# Altium integrated library General.IntLib: 102 symbols (part 1 of 3)
Pins are listed as number, name and electrical type; pins without a type are passive.

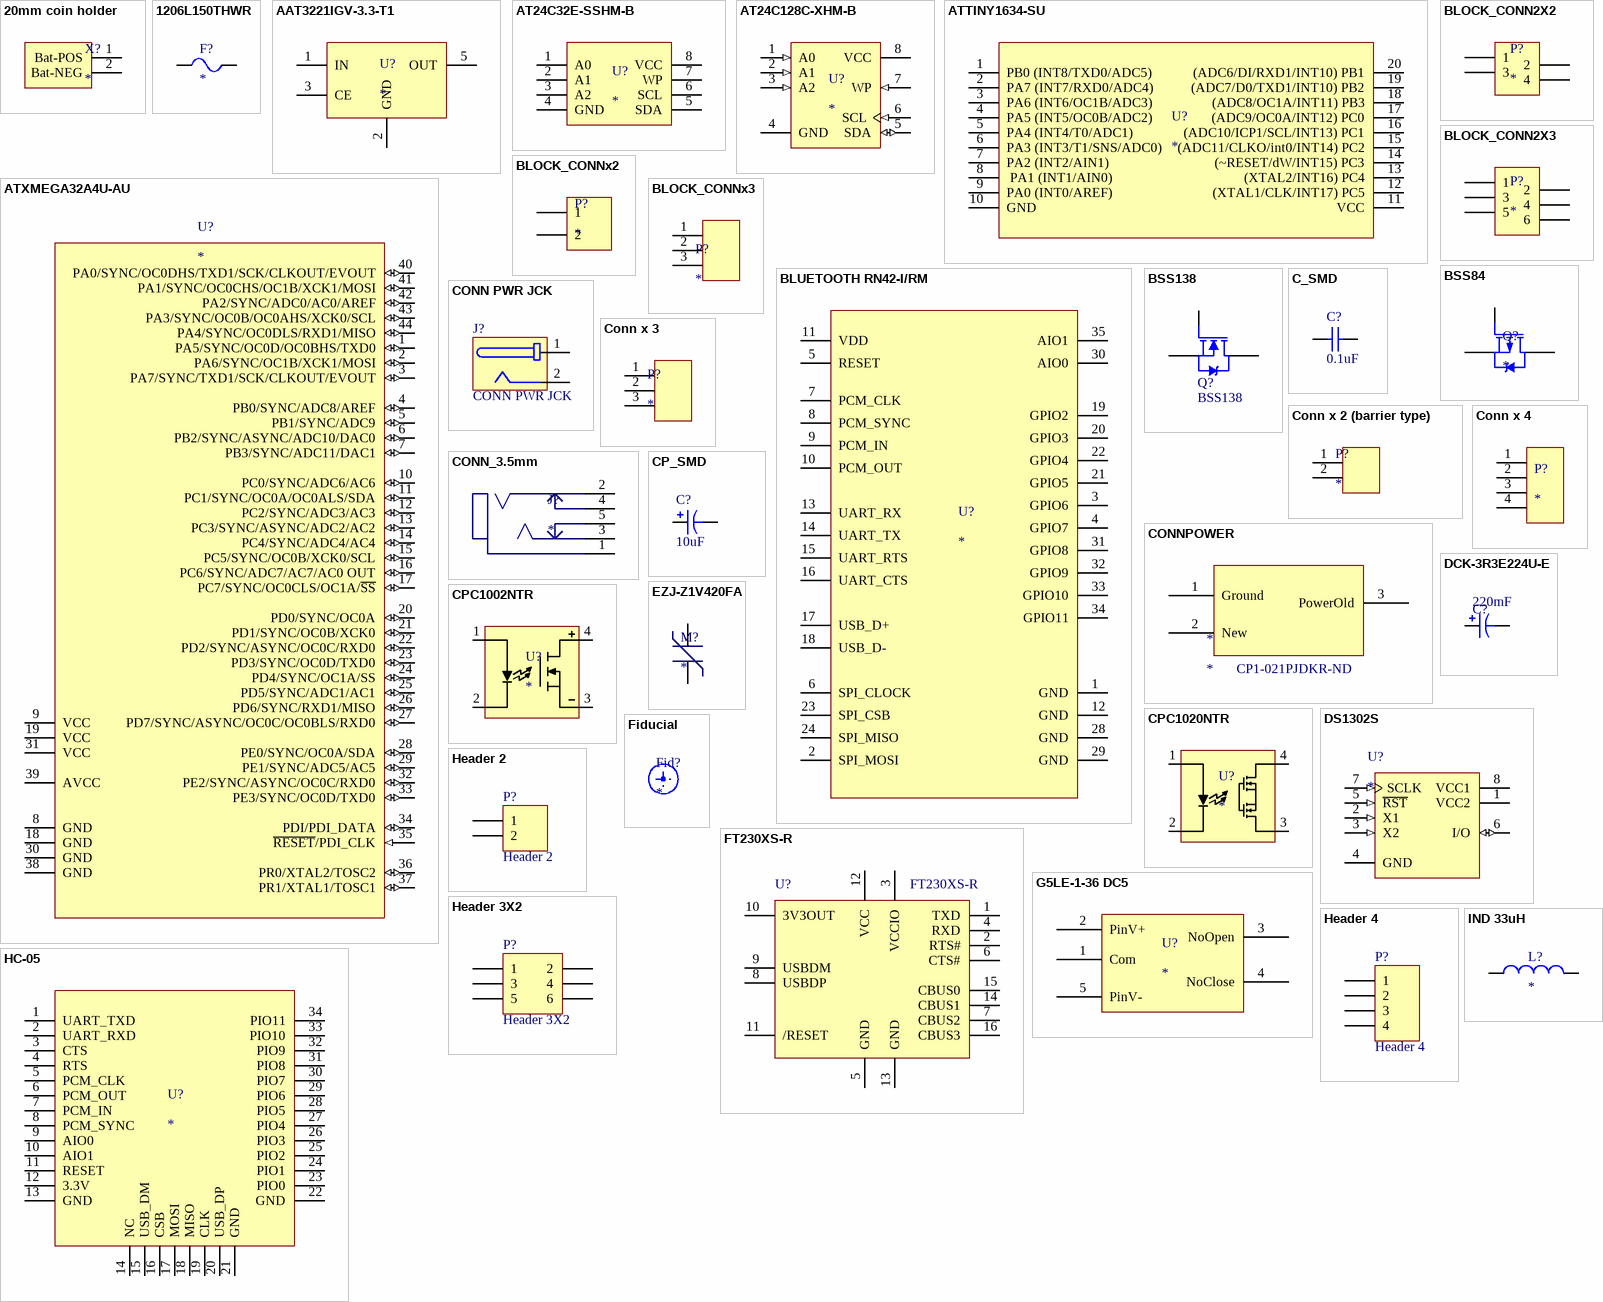
[diagram p0: symbols 20mm coin holder to IND 33uH]

## 20mm coin holder
designator X?
HOLDER BATTERY 20MM COIN; Manufacturer: Linx Technologies Inc.; Manufacturer Part Number: BAT-HLD-001; Battery Type, Function: Coin Cell, Retainer; Style: Retainer; Battery Cell Size: Coin, 20.0mm; Number of Cells: 1; Battery Series: 2025, 2032; Supplier 1: Digi-Key; RoHS: RoHS Compliant; Category: Battery Products; Stock 1: 32677; Pricing 1: 1=0.28, 25=0.2568, 100=0.233, 1000=0.22875 (USD); Mounting Type: PCB, Surface Mount; Termination Style: SMD (SMT) Tab; Height Above Board: 0.165" (4.20mm); Operating Temperature: -; ComponentLink1URL: https://www.linxtechnologies.com/resources/diagrams/bat-hld-001.pdf; ComponentLink1Description: https://www.linxtechnologies.com/resources/diagrams/bat-hld-001.pdf; Supplier Part Number 1: BAT-HLD-001-ND
footprint coin-battery-holder
pins: 1 Bat-POS, 2 Bat-NEG

## 1206L150THWR
designator F?
FUSE PTC RESET 8V 1.50A 1206; Manufacturer: Littelfuse Inc; Manufacturer Part Number: 1206L150THWR; Current - Max: 100A; Current - Hold (Ih) (Max): 1.5A; Current - Trip (It): 3A; R Min/Max: 0.040 ~ 0.120 Ohm; Time to Trip: 0.3s; Supplier 1: Digi-Key; RoHS: RoHS Compliant; Category: Circuit Protection; Stock 1: 8140; Pricing 1: 1=0.49, 10=0.462, 25=0.4256, 50=0.3892, 100=0.3234, 250=0.294, 500=0.2492, 1000=0.2198 (USD); Packaging: Cut Tape (CT); Voltage - Max: 8V; Package / Case: 1206 (3216 Metric), Concave, Long Side Terminals; ComponentLink1URL: http://www.littelfuse.com/~/media/electronics/datasheets/resettable_ptcs/littelfuse_ptc_1206l_datasheet.pdf.pdf; ComponentLink1Description: http://www.littelfuse.com/~/media/electronics/datasheets/resettable_ptcs/littelfuse_ptc_1206l_datasheet.pdf.pdf; Supplier Part Number 1: F3372CT-ND
footprint R1206_L (Chip Resistor, 2-Leads, Body 3,13x1,55mm, IPC High Density)
footprint R1206_M (Chip Resistor, 2-Leads, Body 3,13x1,60mm, IPC Low Density)
footprint R1206_N (Chip Resistor, 2-Leads, Body 3,13x1,55mm, IPC Medium Density)
pins: 1, 2

## AAT3221IGV-3.3-T1
designator U?
IC REG LDO 3.3V 0.15A SOT23-5; Manufacturer: Skyworks Solutions Inc; Manufacturer Part Number: AAT3221IGV-3.3-T1; Regulator Topology: Positive Fixed; Current - Output: 150mA; Voltage - Dropout (Typical): 0.18V @ 100mA; Number of Regulators: 1; Voltage - Input: Up to 5.5V; Supplier 1: Digi-Key; RoHS: RoHS Compliant; Category: Integrated Circuits (ICs); Stock 1: 55137; Pricing 1: 1=0.17, 100=0.15 (USD); Packaging: Cut Tape (CT); Voltage - Output: 3.3V; Current - Limit (Min): -; Operating Temperature: -40°C ~ 85°C; Mounting Type: Surface Mount; Package / Case: SC-74A, SOT-753; Supplier Device Package: SOT-23-5; ComponentLink1URL: http://www.skyworksinc.com/uploads/documents/AAT3221_AAT3222_202251B.pdf; ComponentLink1Description: http://www.skyworksinc.com/uploads/documents/AAT3221_AAT3222_202251B.pdf; Supplier Part Number 1: 863-1491-1-ND
footprint SOT-23-OT5_L (SOT23, 5-Leads, Body 2.9x1.6mm, Pitch 0.95mm, Lead Span 2.7mm, IPC High Density)
footprint SOT-23-OT5_M (SOT23, 5-Leads, Body 2.9x1.6mm, Pitch 0.95mm, Lead Span 2.7mm, IPC Low Density)
footprint SOT-23-OT5_N (SOT23, 5-Leads, Body 2.9x1.6mm, Pitch 0.95mm, Lead Span 2.7mm, IPC Medium Density)
pins: 1 IN, 2 GND, 3 CE, 5 OUT

## AT24C32E-SSHM-B
designator U?
1.7-3.6V 1MHZ IND TMP 8-SOIC-N; Manufacturer: Atmel; Manufacturer Part Number: AT24C32E-SSHM-B; Format - Memory: EEPROMs - Serial; Memory Type: EEPROM; Memory Size: 32K (4K x 8); Speed: 400kHz, 1MHz; Interface: I²C, 2-Wire Serial; Voltage - Supply: 1.7 V ~ 3.6 V; Supplier 1: Digi-Key; RoHS: RoHS Compliant; Category: Integrated Circuits (ICs); Stock 1: 1215; Pricing 1: 1=0.42, 10=0.416, 25=0.3868, 50=0.3844, 100=0.3415, 250=0.33708, 500=0.33204, 1000=0.32315 (USD); Packaging: Tube; Operating Temperature: -40°C ~ 85°C (TC); Package / Case: 8-SOIC (0.154", 3.90mm Width); Supplier Device Package: 8-SOIC; ComponentLink1URL: http://www.atmel.com/Images/Atmel-8905-SEEPROM-AT24C32E-Datasheet.pdf; ComponentLink1Description: http://www.atmel.com/Images/Atmel-8905-SEEPROM-AT24C32E-Datasheet.pdf; Supplier Part Number 1: AT24C32E-SSHM-B-ND
footprint SOIC-8_N (SOIC, 8-Leads, Body 4.90x3.90mm, Pitch 1.27mm, IPC Medium Density)
pins: 1 A0, 2 A1, 3 A2, 4 GND, 5 SDA, 6 SCL, 7 WP, 8 VCC

## AT24C128C-XHM-B
designator U?
IC EEPROM 128KBIT 1MHZ 8TSSOP; Manufacturer: Atmel; Manufacturer Part Number: AT24C128C-XHM-B; Format - Memory: EEPROMs - Serial; Memory Size: 128K (16K x 8); Speed: 400kHz, 1MHz; Interface: I²C, 2-Wire Serial; Voltage - Supply: 1.7 V ~ 5.5 V; Supplier 1: Digi-Key; RoHS: RoHS Compliant; Category: Integrated Circuits (ICs); Stock 1: 6121; Pricing 1: 1=0.79, 10=0.717, 25=0.708, 50=0.704, 100=0.6294, 250=0.62392, 500=0.61484, 1000=0.59267 (USD); Packaging: Bulk; Memory Type: EEPROM; Operating Temperature: -40°C ~ 85°C; Package / Case: 8-TSSOP (0.173", 4.40mm Width); Supplier Device Package: 8-TSSOP; ComponentLink1URL: http://www.atmel.com/Images/doc8734.pdf; ComponentLink1Description: http://www.atmel.com/Images/doc8734.pdf; Supplier Part Number 1: AT24C128C-XHM-B-ND
footprint 8A2_L (TSOP, 8-Leads, Body 3x4.4mm, Pitch 0.65mm, IPC High Density)
footprint 8A2_M (TSOP, 8-Leads, Body 3x4.4mm, Pitch 0.65mm, IPC Low Density)
footprint 8A2_N (TSOP, 8-Leads, Body 3x4.4mm, Pitch 0.65mm, IPC Medium Density)
pins: 1 A0 (in), 2 A1 (in), 3 A2 (in), 4 GND (power), 5 SDA (io), 6 SCL (in), 7 WP (in), 8 VCC (power)

## ATTINY1634-SU
designator U?
IC MCU 8BIT 16KB FLASH 20SOIC; Manufacturer: Atmel; Manufacturer Part Number: ATTINY1634-SU; Core Processor: AVR; Core Size: 8-Bit; Speed: 12MHz; Connectivity: I²C, SPI, UART/USART, USI; Peripherals: Brown-out Detect/Reset, POR, PWM, WDT; Number of I /O: 18; Program Memory Size: 16KB (16K x 8); EEPROM Size: 256 x 8; RAM Size: 1K x 8; Voltage - Supply (Vcc/Vdd): 1.8 V ~ 5.5 V; Data Converters: A/D 12x10b; Oscillator Type: Internal; Supplier 1: Digi-Key; RoHS: RoHS Compliant; Category: Integrated Circuits (ICs); Stock 1: 0; Pricing 1: 1=1.76, 25=1.12, 100=1 (USD); Packaging: Tube; Program Memory Type: FLASH; Operating Temperature: -40°C ~ 85°C; Package / Case: 20-SOIC (0.295", 7.50mm Width); ComponentLink1URL: http://www.atmel.com/Images/Atmel-8303-8-bit-AVR-Microcontroller-tinyAVR-ATtiny1634_Datasheet_summary.pdf; ComponentLink1Description: http://www.atmel.com/Images/Atmel-8303-8-bit-AVR-Microcontroller-tinyAVR-ATtiny1634_Datasheet_summary.pdf; Supplier Part Number 1: ATTINY1634-SU-ND
footprint SOIC20_L (SOIC, 20-Leads, Body 12,80x7,50mm, Pitch 1,27mm, IPC High Density)
footprint SOIC20_M (SOIC, 20-Leads, Body 12,80x7,50mm, Pitch 1,27mm, IPC Low Density)
footprint SOIC20_N (SOIC, 20-Leads, Body 12,80x7,50mm, Pitch 1,27mm, IPC Medium Density)
pins: 1 PB0 (INT8/TXD0/ADC5) , 2 PA7 (INT7/RXD0/ADC4) , 3 PA6 (INT6/OC1B/ADC3) , 4 PA5 (INT5/OC0B/ADC2) , 5 PA4 (INT4/T0/ADC1), 6 PA3 (INT3/T1/SNS/ADC0) , 7 PA2 (INT2/AIN1) , 8  PA1 (INT1/AIN0), 9 PA0 (INT0/AREF) , 10 GND, 11 VCC, 12 (XTAL1/CLK/INT17) PC5, 13 (XTAL2/INT16) PC4, 14 (~RESET/dW/INT15) PC3, 15 (ADC11/CLKO/int0/INT14) PC2, 16 (ADC10/ICP1/SCL/INT13) PC1, 17 (ADC9/OC0A/INT12) PC0, 18 (ADC8/OC1A/INT11) PB3, 19 (ADC7/D0/TXD1/INT10) PB2, 20 (ADC6/DI/RXD1/INT10) PB1

## ATXMEGA32A4U-AU
designator U?
IC MCU 8BIT 32KB FLASH 44TQFP; Manufacturer: Atmel; Manufacturer Part Number: ATXMEGA32A4U-AU; Core Processor: AVR; Core Size: 8/16-Bit; Speed: 32MHz; Connectivity: I²C, IrDA, SPI, UART/USART, USB; Peripherals: Brown-out Detect/Reset, DMA, POR, PWM, WDT; Number of I /O: 34; Program Memory Size: 32KB (16K x 16); EEPROM Size: 2K x 8; RAM Size: 4K x 8; Voltage - Supply (Vcc/Vdd): 1.6 V ~ 3.6 V; Data Converters: A/D 12x12b, D/A 2x12b; Oscillator Type: Internal; Supplier 1: Digi-Key; RoHS: RoHS Compliant; Category: Integrated Circuits (ICs); Stock 1: 2077; Pricing 1: 1=3.43, 25=2.1548, 100=1.9152 (USD); Packaging: Tray; Program Memory Type: FLASH; Operating Temperature: -40°C ~ 85°C; Package / Case: 44-TQFP; ComponentLink1URL: http://www.atmel.com/Images/Atmel-8387-8-and16-bit-AVR-Microcontroller-XMEGA-A4U_Datasheet.pdf; ComponentLink1Description: http://www.atmel.com/Images/Atmel-8387-8-and16-bit-AVR-Microcontroller-XMEGA-A4U_Datasheet.pdf; Supplier Part Number 1: ATXMEGA32A4U-AU-ND
footprint 44A_L (Thin QFP, 44-Leads, Body 10x10mm, Pitch 0.8mm, IPC High Density)
footprint 44A_M (Thin QFP, 44-Leads, Body 10x10mm, Pitch 0.8mm, IPC Low Density)
footprint 44A_N (Thin QFP, 44-Leads, Body 10x10mm, Pitch 0.8mm, IPC Medium Density)
pins: 1 PA5/SYNC/OC0D/OC0BHS/TXD0 (io), 2 PA6/SYNC/OC1B/XCK1/MOSI (io), 3 PA7/SYNC/TXD1/SCK/CLKOUT/EVOUT (io), 4 PB0/SYNC/ADC8/AREF (io), 5 PB1/SYNC/ADC9 (io), 6 PB2/SYNC/ASYNC/ADC10/DAC0 (io), 7 PB3/SYNC/ADC11/DAC1 (io), 8 GND (power), 9 VCC (power), 10 PC0/SYNC/ADC6/AC6 (io), 11 PC1/SYNC/OC0A/OC0ALS/SDA (io), 12 PC2/SYNC/ADC3/AC3 (io), 13 PC3/SYNC/ASYNC/ADC2/AC2 (io), 14 PC4/SYNC/ADC4/AC4 (io), 15 PC5/SYNC/OC0B/XCK0/SCL (io), 16 PC6/SYNC/ADC7/AC7/AC0 OUT (io), 17 PC7/SYNC/OC0CLS/OC1A/~{SS} (io), 18 GND (power), 19 VCC (power), 20 PD0/SYNC/OC0A (io), 21 PD1/SYNC/OC0B/XCK0 (io), 22 PD2/SYNC/ASYNC/OC0C/RXD0 (io), 23 PD3/SYNC/OC0D/TXD0 (io), 24 PD4/SYNC/OC1A/SS (io), 25 PD5/SYNC/ADC1/AC1 (io), 26 PD6/SYNC/RXD1/MISO (io), 27 PD7/SYNC/ASYNC/OC0C/OC0BLS/RXD0 (io), 28 PE0/SYNC/OC0A/SDA (io), 29 PE1/SYNC/ADC5/AC5 (io), 30 GND (power), 31 VCC (power), 32 PE2/SYNC/ASYNC/OC0C/RXD0 (io), 33 PE3/SYNC/OC0D/TXD0 (io), 34 PDI/PDI_DATA (io), 35 ~{RESET}/PDI_CLK (in), 36 PR0/XTAL2/TOSC2 (io), 37 PR1/XTAL1/TOSC1 (io), 38 GND (power), 39 AVCC (power), 40 PA0/SYNC/OC0DHS/TXD1/SCK/CLKOUT/EVOUT (io), 41 PA1/SYNC/OC0CHS/OC1B/XCK1/MOSI (io), 42 PA2/SYNC/ADC0/AC0/AREF (io), 43 PA3/SYNC/OC0B/OC0AHS/XCK0/SCL (io), 44 PA4/SYNC/OC0DLS/RXD1/MISO (io)

## BLOCK_CONN2X2
designator P?
TERM BLOCK 2POS STACK 5.08MM PC; Manufacturer: TE Connectivity; Manufacturer Part Number: 796692-2; Number of Levels: 2; Pitch: 0.200" (5.08mm); Mating Orientation: Horizontal with Board; Current: 17.5A; Voltage: 300V; Wire Gauge: 12-30 AWG; Wire Termination: Screw - Rising Cage Clamp; Clamp Material - Plating: Brass - Tin Plated; Screw Material - Plating: Brass - Nickel Plated; Torque - Screw: 0.79 Nm (7.0 Lb-In); Screw Thread: M3; Supplier 1: Digi-Key; RoHS: RoHS Compliant; Category: Connectors, Interconnects; Stock 1: 978; Pricing 1: 1=2.66, 10=2.013, 25=1.866, 50=1.6778, 100=1.637, 250=1.43236, 500=1.30956, 1000=1.1868, 2500=1.06402 (USD); Packaging: Bulk; Positions Per Level: 2; Mounting Type: Through Hole; Features: Interlocking (Side); Color: Green; Operating Temperature: -; Housing Material: Polyamide (PA66), Nylon 6/6; Contact Material - Plating: Brass - Tin Plated; ComponentLink1URL: http://www.te.com/commerce/DocumentDelivery/DDEController?Action=srchrtrv&DocNm=796692&DocType=Customer+Drawing&DocLang=English; ComponentLink1Description: http://www.te.com/commerce/DocumentDelivery/DDEController?Action=srchrtrv&DocNm=796692&DocType=Customer+Drawing&DocLang=English; Supplier Part Number 1: A98450-ND
footprint block_conn 2 x 2
pins: 1, 2, 3, 4

## BLOCK_CONN2X3
designator P?
TERM BLOCK 3POS STACK 5.08MM PC; Manufacturer: TE Connectivity; Manufacturer Part Number: 796692-3; Number of Levels: 2; Positions Per Level: 3; Pitch: 0.200" (5.08mm); Mating Orientation: Horizontal with Board; Current: 17.5A; Voltage: 300V; Wire Gauge: 12-30 AWG; Wire Termination: Screw - Rising Cage Clamp; Clamp Material - Plating: Brass - Tin Plated; Screw Material - Plating: Brass - Nickel Plated; Torque - Screw: 0.79 Nm (7.0 Lb-In); Screw Thread: M3; Supplier 1: Digi-Key; RoHS: RoHS Compliant; Category: Connectors, Interconnects; Stock 1: 537; Pricing 1: 1=4.64, 25=3.312, 50=2.944, 100=2.88, 250=2.656, 500=2.4, 1000=2.128, 2500=2.04, 5000=2 (USD); Packaging: Bulk; Mounting Type: Through Hole; Features: Interlocking (Side); Color: Green; Operating Temperature: -; Housing Material: Polyamide (PA66), Nylon 6/6; Contact Material - Plating: Brass - Tin Plated; ComponentLink1URL: http://www.te.com/commerce/DocumentDelivery/DDEController?Action=srchrtrv&DocNm=796692&DocType=Customer+Drawing&DocLang=English; ComponentLink1Description: http://www.te.com/commerce/DocumentDelivery/DDEController?Action=srchrtrv&DocNm=796692&DocType=Customer+Drawing&DocLang=English; Supplier Part Number 1: A98266-ND
footprint block_conn 2 x 3
pins: 1, 2, 3, 4, 5, 6

## BLOCK_CONNx2
designator P?
TERM BLOCK 5.08MM VERT 2POS PCB; Manufacturer: On Shore Technology Inc; Manufacturer Part Number: OSTTC022162; Number of Levels: 1; Positions Per Level: 2; Pitch: 0.200" (5.08mm); Mating Orientation: Horizontal with Board; Current: 15A; Voltage: 300V; Wire Gauge: 14-22 AWG; Wire Termination: Screw - Leaf Spring, Wire Guard; Clamp Material - Plating: Steel, Stainless; Screw Material - Plating: Steel - Zinc Plated; Torque - Screw: 0.3 Nm (2.6 Lb-In); Screw Thread: M2.6; Supplier 1: Digi-Key; RoHS: RoHS Compliant; Category: Connectors, Interconnects; Stock 1: 37906; Pricing 1: 1=0.41, 10=0.385, 50=0.2806, 100=0.2695, 250=0.242, 500=0.231, 1000=0.1925, 2500=0.176, 5000=0.165 (USD); Packaging: Bulk; Mounting Type: Through Hole; Features: Interlocking (Side); Color: Blue; Operating Temperature: -30°C ~ 105°C; Housing Material: Thermoplastic; Contact Material - Plating: Tin Plated; ComponentLink1URL: http://www.on-shore.com/sites/default/files/manuals/osttcxx2162.pdf; ComponentLink1Description: http://www.on-shore.com/sites/default/files/manuals/osttcxx2162.pdf; Supplier Part Number 1: ED2609-ND
footprint BLOCK_CONNX2
pins: 1, 2

## BLOCK_CONNx3
designator P?
TERM BLOCK 5.08MM VERT 3POS PCB; Manufacturer: On Shore Technology Inc; Manufacturer Part Number: OSTTC032162; Number of Levels: 1; Positions Per Level: 3; Pitch: 0.200" (5.08mm); Mating Orientation: Horizontal with Board; Current: 15A; Voltage: 300V; Wire Gauge: 14-22 AWG; Wire Termination: Screw - Leaf Spring, Wire Guard; Clamp Material - Plating: Steel, Stainless; Screw Material - Plating: Steel - Zinc Plated; Torque - Screw: 0.3 Nm (2.6 Lb-In); Screw Thread: M2.6; Supplier 1: Digi-Key; RoHS: RoHS Compliant; Category: Connectors, Interconnects; Stock 1: 4040; Pricing 1: 1=0.51, 10=0.48, 50=0.384, 100=0.368, 250=0.336, 500=0.32, 1000=0.264, 2500=0.24, 5000=0.232 (USD); Packaging: Bulk; Mounting Type: Through Hole; Features: Interlocking (Side); Color: Blue; Operating Temperature: -30°C ~ 105°C; Housing Material: Thermoplastic; Contact Material - Plating: Tin Plated; ComponentLink1URL: http://www.on-shore.com/sites/default/files/manuals/osttcxx2162.pdf; ComponentLink1Description: http://www.on-shore.com/sites/default/files/manuals/osttcxx2162.pdf; Supplier Part Number 1: ED2610-ND
footprint BLOCK_CONNx3
pins: 1, 2, 3

## BLUETOOTH RN42-I/RM
designator U?
MODULE BLUETOOTH V2.1+EDR; Manufacturer: Microchip Technology; Manufacturer Part Number: RN42-I/RM; Frequency: 2.4GHz; Data Rate (Max): 3Mbps; Modulation or Protocol: Bluetooth v2.1+EDR, Class 2; Power - Output: 4dBm; Sensitivity: -80dBm; Voltage - Supply: 3 V ~ 3.6 V; Current - Receiving: 25mA; Data Interface: Pads for Pins; Antenna Connector: On-Board, Trace; Supplier 1: Digi-Key; RoHS: RoHS Compliant; Category: RF/IF and RFID; Stock 1: 1863; Pricing 1: 1=18.32, 10=15.27, 25=13.9624 (USD); Packaging: Tray; Applications: General Purpose; Current - Transmitting: 25mA; Memory Size: -; Operating Temperature: -40°C ~ 85°C; Package / Case: 35-SMD Module; ComponentLink1URL: http://www.microchip.com/mymicrochip/filehandler.aspx?ddocname=en558090; ComponentLink1Description: http://www.microchip.com/mymicrochip/filehandler.aspx?ddocname=en558090; Supplier Part Number 1: 740-1038-ND
footprint RN42
pins: 1 GND, 2 SPI_MOSI, 3 GPIO6, 4 GPIO7, 5 RESET, 6 SPI_CLOCK, 7 PCM_CLK, 8 PCM_SYNC, 9 PCM_IN, 10 PCM_OUT, 11 VDD, 12 GND, 13 UART_RX, 14 UART_TX, 15 UART_RTS, 16 UART_CTS, 17 USB_D+, 18 USB_D-, 19 GPIO2, 20 GPIO3, 21 GPIO5, 22 GPIO4, 23 SPI_CSB, 24 SPI_MISO, 28 GND, 29 GND, 30 AIO0, 31 GPIO8, 32 GPIO9, 33 GPIO10, 34 GPIO11, 35 AIO1

## BSS84
designator Q?
MOSFET P-CH 50V 130MA SOT-23; Manufacturer: Fairchild Semiconductor; Manufacturer Part Number: BSS84; FET Type: MOSFET P-Channel, Metal Oxide; FET Feature: Logic Level Gate; Current - Continuous Drain (Id) @ 25°C: 130mA (Ta); Rds On (Max) @ Id, Vgs: 10 Ohm @ 100mA, 5V; Vgs(th) (Max) @ Id: 2V @ 1mA; Gate Charge (Qg) @ Vgs: 1.3nC @ 5V; Input Capacitance (Ciss) @ Vds: 73pF @ 25V; Power - Max: 360mW; Supplier 1: Digi-Key; RoHS: RoHS Compliant; Category: Discrete Semiconductor Products; Stock 1: 131262; Pricing 1: 1=0.22, 10=0.198, 25=0.1428, 100=0.111, 250=0.06976, 500=0.05944, 1000=0.0405 (USD); Packaging: Cut Tape (CT); Drain to Source Voltage (Vdss): 50V; Mounting Type: Surface Mount; Package / Case: TO-236-3, SC-59, SOT-23-3; Supplier Device Package: SOT-23; ComponentLink1URL: http://www.fairchildsemi.com/ds/BS/BSS84.pdf; ComponentLink1Description: http://www.fairchildsemi.com/ds/BS/BSS84.pdf; Supplier Part Number 1: BSS84CT-ND
footprint SOT-23_L (SOT23, 3-Leads, Body 2.9x1.3mm, Pitch 0.95mm, Lead Span 2.5mm, IPC High Density)
footprint SOT-23_M (SOT23, 3-Leads, Body 2.9x1.3mm, Pitch 0.95mm, Lead Span 2.5mm, IPC Low Density)
footprint SOT-23_N (SOT23, 3-Leads, Body 2.9x1.3mm, Pitch 0.95mm, Lead Span 2.5mm, IPC Medium Density)
pins: 1 G, 2 S, 3 D

## BSS138
designator Q?
MOSFET N-CH 50V 220MA SOT-23; Manufacturer: Fairchild Semiconductor; FET Type: MOSFET N-Channel, Metal Oxide; FET Feature: Logic Level Gate; Current - Continuous Drain (Id) @ 25°C: 220mA (Ta); Rds On (Max) @ Id, Vgs: 3.5 Ohm @ 220mA, 10V; Vgs(th) (Max) @ Id: 1.5V @ 1mA; Gate Charge (Qg) @ Vgs: 2.4nC @ 10V; Input Capacitance (Ciss) @ Vds: 27pF @ 25V; Power - Max: 360mW; Supplier 1: Digi-Key; Manufacturer Part Number: BSS138; RoHS: RoHS Compliant; Category: Discrete Semiconductor Products; Stock 1: 168921; Pricing 1: 1=0.22, 10=0.196, 25=0.1408, 100=0.1096, 250=0.06884, 500=0.05868, 1000=0.03998 (USD); Packaging: Cut Tape (CT); Drain to Source Voltage (Vdss): 50V; Mounting Type: Surface Mount; Package / Case: TO-236-3, SC-59, SOT-23-3; Supplier Device Package: SOT-23; ComponentLink1URL: http://www.fairchildsemi.com/datasheets/BS/BSS138.pdf; ComponentLink1Description: http://www.fairchildsemi.com/datasheets/BS/BSS138.pdf; Supplier Part Number 1: BSS138CT-ND
footprint SOT23_N (SOT23, 3-Leads, Body 2.9x1.3mm, Pitch 0.95mm, Lead Span 2.3mm, IPC Medium Density)
footprint SOT23_M (SOT23, 3-Leads, Body 2.9x1.3mm, Pitch 0.95mm, Lead Span 2.3mm, IPC Low Density)
footprint SOT23_L (SOT23, 3-Leads, Body 2.9x1.3mm, Pitch 0.95mm, Lead Span 2.3mm, IPC High Density)
pins: 1 G, 2 S, 3 D

## C_SMD
designator C?, comment 0.1uF
Value: 0.1uF
footprint C0603_L (Chip Capacitor, 2-Leads, Body 1,60x0,80mm, IPC High Density)
footprint C0603_M (Chip Capacitor, 2-Leads, Body 1,60x0,80mm, IPC Low Density)
footprint C0603_N (Chip Capacitor, 2-Leads, Body 1,60x0,80mm, IPC Medium Density)
footprint C0805_L (Chip Capacitor, 2-Leads, Body 2,00x1,25mm, IPC High Density)
footprint C0805_M (Chip Capacitor, 2-Leads, Body 2,00x1,25mm, IPC Low Density)
footprint C0805_N (Chip Capacitor, 2-Leads, Body 2,00x1,25mm, IPC Medium Density)
footprint C1206_L (Chip Capacitor, 2-Leads, Body 3,20x1,60mm, IPC High Density)
footprint C1206_M (Chip Capacitor, 2-Leads, Body 3,20x1,60mm, IPC Low Density)
footprint C1206_N (Chip Capacitor, 2-Leads, Body 3,20x1,60mm, IPC Medium Density)
pins: 1, 2

## CONN PWR JCK
designator J?
CON PWR JCK 2.0 X 6.5MM W/O SW; Manufacturer: CUI Inc; Manufacturer Part Number: PJ-037A; Connector Type: Jack; Gender: Male; Plug/Mating Plug Diameter: 2.1mm ID, 5.5mm OD; Number of Positions/Contacts: 2 Conductors, 2 Contacts; Internal Switch(s): Does Not Contain Switch; Shielding: Unshielded; Voltage - Rated: 16VDC; Current Rating: 2.5A; Supplier 1: Digi-Key; RoHS: RoHS Compliant; Category: Connectors, Interconnects; Stock 1: 1843; Pricing 1: 1=0.91, 10=0.634, 100=0.4254, 500=0.3439, 1000=0.3077, 2500=0.24435 (USD); Mounting Type: Through Hole, Right Angle; Termination: Solder Eyelet(s); Features: -; Color: Black; Contact Material: Copper; Contact Material - Plating: Nickel; Housing Color: Black; Housing Material: Thermoplastic; Operating Temperature: -; ComponentLink1URL: http://www.cui.com/product/resource/digikeypdf/pj-037a.pdf; ComponentLink1Description: http://www.cui.com/product/resource/digikeypdf/pj-037a.pdf; Supplier Part Number 1: CP-037A-ND
footprint CONN_BARREL_PWR
pins: 1, 2

## Conn x 2 (barrier type)
designator P?
Manufacturer: TE Connectivity; Manufacturer Part Number: 3-1437652-9; Number of Circuits: 2; Pitch: 0.375" (9.53mm); Current Rating: 25A; Voltage Rating: 300V; Wire Gauge: 12-22 AWG; Top Termination: Screws; Bottom Termination: PC Pin; Barrier Type: 3 Wall (Tri); Material - Insulation: Thermoplastic; Material Flammability Rating: UL94 V-0; Supplier 1: Digi-Key; RoHS: RoHS Compliant; Category: Connectors, Interconnects; Stock 1: 5495; Pricing 1: 1=1.62, 10=1.14, 50=0.9652, 100=0.9609, 250=0.8114, 500=0.7687, 1000=0.68328, 2500=0.56798, 5000=0.55517 (USD); Packaging: Bulk; Terminal Block Type: Barrier Block; Number of Wire Entries: 2; Number of Rows: 1; Features: -; Color: Black; Terminal Material: Steel; Terminal Finish: Zinc, Clear Chromate; Mounting Type: Through Hole; Operating Temperature: 105°C; ComponentLink1URL: http://www.te.com/commerce/DocumentDelivery/DDEController?Action=srchrtrv&DocNm=3-1437652-9&DocType=Customer+Drawing&DocLang=English; ComponentLink1Description: http://www.te.com/commerce/DocumentDelivery/DDEController?Action=srchrtrv&DocNm=3-1437652-9&DocType=Customer+Drawing&DocLang=English; Supplier Part Number 1: A98481-ND
footprint BARRIER CONN X 2
pins: 1, 2

## Conn x 3
designator P?
CONN HEADER VERT 3POS .100 TIN; Manufacturer: TE Connectivity; Manufacturer Part Number: 640456-3; Connector Type: Header, Unshrouded; Number of Positions: 3; Number of Positions Loaded: All; Pitch: 0.100" (2.54mm); Supplier 1: Digi-Key; RoHS: RoHS Compliant; Category: Connectors, Interconnects; Stock 1: 62912; Pricing 1: 1=0.2, 10=0.185, 50=0.118, 100=0.1141, 250=0.09832, 500=0.0944, 1000=0.08259, 2500=0.07473, 5000=0.07079 (USD); Packaging: Bulk; Contact Type: Male Pin; Number of Rows: 1; Row Spacing: -; Contact Mating Length: 0.295" (7.49mm); Mounting Type: Through Hole; Termination: Solder; Fastening Type: Friction Lock; Features: -; Contact Finish: Tin; Contact Finish Thickness: -; Color: Natural; ComponentLink1URL: http://www.te.com/commerce/DocumentDelivery/DDEController?Action=srchrtrv&DocNm=640456&DocType=Customer+Drawing&DocLang=English; ComponentLink1Description: http://www.te.com/commerce/DocumentDelivery/DDEController?Action=srchrtrv&DocNm=640456&DocType=Customer+Drawing&DocLang=English; Supplier Part Number 1: A19470-ND
footprint conn x 3
pins: 1, 2, 3

## Conn x 4
designator P?
CONN HEADER VERT 4POS .100 TIN; Manufacturer: TE Connectivity; Manufacturer Part Number: 640454-4; Connector Type: Header, Unshrouded; Number of Positions: 4; Number of Positions Loaded: All; Pitch: 0.100" (2.54mm); Supplier 1: Digi-Key; RoHS: RoHS Compliant; Category: Connectors, Interconnects; Stock 1: 24607; Pricing 1: 1=0.18, 10=0.164, 50=0.1228, 100=0.114, 250=0.10088, 500=0.0965, 1000=0.07895, 2500=0.07237, 5000=0.07018 (USD); Packaging: Bulk; Contact Type: Male Pin; Number of Rows: 1; Row Spacing: -; Contact Mating Length: 0.295" (7.49mm); Mounting Type: Through Hole; Termination: Solder; Fastening Type: -; Features: Polarizing Key; Contact Finish: Tin; Contact Finish Thickness: -; Color: Natural; ComponentLink1URL: http://www.te.com/commerce/DocumentDelivery/DDEController?Action=srchrtrv&DocNm=640454&DocType=Customer+Drawing&DocLang=English; ComponentLink1Description: http://www.te.com/commerce/DocumentDelivery/DDEController?Action=srchrtrv&DocNm=640454&DocType=Customer+Drawing&DocLang=English; Supplier Part Number 1: A19431-ND
footprint conn x 4
pins: 1, 2, 3, 4

## CONN_3.5mm
designator J?
CONN JACK STEREO 3.5MM SMD; Manufacturer: Switchcraft Inc.; Manufacturer Part Number: 35RASMT4BHNTRX; Connector Type: Phone Jack; Gender: Female; Plug/Mating Plug Diameter: 3.50mm (0.141", 1/8", Mini Plug) - Headphone; Number of Positions/Contacts: 3 Conductors, 5 Contacts; Internal Switch(s): Two Switches; Shielding: Unshielded; Color - Contact: Gold; Voltage - Rated: 250VAC; Current Rating: 3A; Supplier 1: Digi-Key; RoHS: RoHS Compliant; Category: Connectors, Interconnects; Stock 1: 3537; Pricing 1: 1=0.65 (USD); Signal Lines: Stereo; Mounting Type: Surface Mount, Right Angle; Termination: Solder; Features: -; Contact Material: Copper Alloy; Contact Material - Plating: Silver; Housing Material: Thermoplastic; Housing Color: Black; Operating Temperature: -25°C ~ 85°C; Packaging: Digi-Reel®; ComponentLink1URL: http://www.switchcraft.com/Drawings/35rasmt4bhntrx_cd.pdf; ComponentLink1Description: http://www.switchcraft.com/Drawings/35rasmt4bhntrx_cd.pdf; Supplier Part Number 1: SC1488-6-ND
footprint JACK_3.5MM
pins: 1, 2, 3, 4, 5

## CONNPOWER
designator *  Supplier Part Number 1: CP1-021PJDKR-ND
Supplier 1: Digi-Key
footprint CONNPOWER
pins: 1 Ground, 2 New, 3 PowerOld

## CP_SMD
designator C?, comment 10uF
Value: 10uF
footprint C_TANT_A_3216_L (Molded Capacitor, 2-Leads, Body 3,20x1,60mm, IPC High Density)
footprint C_TANT_A_3216_M (Molded Capacitor, 2-Leads, Body 3,20x1,60mm, IPC Low Density)
footprint C_TANT_A_3216_N (Molded Capacitor, 2-Leads, Body 3,20x1,60mm, IPC Medium Density)
pins: 1, 2

## CPC1002NTR
designator U?
RELAY OPTOMOS 700MA 4-SOP; Manufacturer: IXYS Integrated Circuits Division; Manufacturer Part Number: CPC1002NTR; Circuit: SPST-NO (1 Form A); Output Type: DC; On-State Resistance: 550 mOhm; Voltage - Input: 1.2VDC; Voltage - Load: 0 ~ 60 V; Supplier 1: Digi-Key; RoHS: RoHS Compliant; Category: Relays; Stock 1: 7155; Pricing 1: 1=1.71, 10=1.53, 25=1.35, 100=1.215, 250=1.05752, 500=0.945, 1000=0.7425 (USD); Packaging: Cut Tape (CT); Load Current: 700mA; Mounting Type: Surface Mount; Termination Style: Gull Wing; Package / Case: 4-SOP (0.150", 3.81mm); Supplier Device Package: 4-SOP (2.54mm); Relay Type: Relay; ComponentLink1URL: http://www.clare.com/home/pdfs.nsf/www/CPC1002N.pdf/$file/CPC1002N.pdf; ComponentLink1Description: http://www.clare.com/home/pdfs.nsf/www/CPC1002N.pdf/$file/CPC1002N.pdf; Supplier Part Number 1: CLA230CT-ND
footprint SOP4_N (SOP, 4-Leads, Body 4,09x3,81mm, Pitch 2,54mm, IPC Medium Density)
pins: 1 control+, 2 control-, 3 DC-, 4 DC+

## CPC1020NTR
designator U?
RELAY OPTOMOS 1200MA 4-SOP; Manufacturer: IXYS Integrated Circuits Division; Manufacturer Part Number: CPC1020NTR; Circuit: SPST-NO (1 Form A); Output Type: AC, DC; On-State Resistance: 250 mOhm; Load Current: 1.2A; Voltage - Input: 1.2VDC; Voltage - Load: 0 ~ 30 V; Supplier 1: Digi-Key; RoHS: RoHS Compliant; Category: Relays; Stock 1: 34319; Pricing 1: 1=3.12, 10=2.808, 25=2.548, 100=2.288, 250=2.08, 500=1.82, 1000=1.56 (USD); Packaging: Cut Tape (CT); Mounting Type: Surface Mount; Termination Style: Gull Wing; Package / Case: 4-SOP (0.150", 3.81mm); Supplier Device Package: 4-SOP (2.54mm); Relay Type: Relay; ComponentLink1URL: http://www.clare.com/home/pdfs.nsf/www/CPC1020N.pdf/$file/CPC1020N.pdf; ComponentLink1Description: http://www.clare.com/home/pdfs.nsf/www/CPC1020N.pdf/$file/CPC1020N.pdf; Supplier Part Number 1: CLA318CT-ND
footprint SOP4_N (SOP, 4-Leads, Body 4,09x3,81mm, Pitch 2,54mm, IPC Medium Density)
pins: 1 control+, 2 control-, 3 DC-, 4 DC+

## DCK-3R3E224U-E
designator C?  Capacitance: 220mF  (hidden comment: *)
CAP 220MF -20% +80% 3.3V SMD; Manufacturer: Elna America; Manufacturer Part Number: DCK-3R3E224U-E; Tolerance: -20%, +80%; ESR (Equivalent Series Resistance): 200 Ohm @ 1kHz; Lifetime @ Temp.: 1000 Hrs @ 60°C; Supplier 1: Digi-Key; RoHS: RoHS Compliant; Category: Capacitors; Stock 1: 16325; Pricing 1: 1=1.41, 10=1.114, 25=1.0208, 50=0.9652, 100=0.8352, 250=0.7424, 500=0.63104, 1000=0.5568, 5000=0.50112 (USD); Packaging: Bulk; Voltage - Rated: 3.3V; Termination: Solder Pads; Mounting Type: Surface Mount; Package / Case: Coin, Wide Terminals - Same Sides; Lead Spacing: -; Size / Dimension: 0.268" Dia (6.80mm); Height - Seated (Max): 0.083" (2.10mm); Operating Temperature: -10°C ~ 60°C; ComponentLink1URL: http://media.digikey.com/pdf/Data%20Sheets/Elna%20America%20Inc/DC_DCKe.pdf; ComponentLink1Description: http://media.digikey.com/pdf/Data%20Sheets/Elna%20America%20Inc/DC_DCKe.pdf; Supplier Part Number 1: 604-1007-ND
footprint SuperCap-Elna
pins: 1, 2

## DS1302S
designator U?
IC TIMEKEEPER T-CHARGE 8-SOIC; Manufacturer: Maxim Integrated; Manufacturer Part Number: DS1302S+T&R; Memory Size: 31B; Time Format: HH:MM:SS (12/24 hr); Date Format: YY-MM-DD-dd; Interface: 3-Wire Serial; Voltage - Supply: 2 V ~ 5.5 V; Supplier 1: Digi-Key; RoHS: RoHS Compliant; Category: Integrated Circuits (ICs); Stock 1: 2031; Pricing 1: 1=3.05, 10=2.882, 25=2.3052, 50=2.19, 100=2.0171, 250=1.91332, 500=1.84416 (USD); Packaging: Cut Tape (CT); Type: Clock/Calendar; Features: Leap Year, NVSRAM, Trickle-Charger; Voltage - Supply, Battery: 2 V ~ 5.5 V; Operating Temperature: 0°C ~ 70°C; Mounting Type: Surface Mount; Package / Case: 8-SOIC (0.209", 5.30mm Width); Supplier Device Package: 8-SO; ComponentLink1URL: http://datasheets.maximintegrated.com/en/ds/DS1302.pdf; ComponentLink1Description: http://datasheets.maximintegrated.com/en/ds/DS1302.pdf; Supplier Part Number 1: DS1302S
footprint SOIC8WA_L (SOP, 8-Leads, Body 5.3x5.3mm, Pitch 1.27mm, IPC High Density)
footprint SOIC8WA_M (SOP, 8-Leads, Body 5.3x5.3mm, Pitch 1.27mm, IPC Low Density)
footprint SOIC8WA_N (SOP, 8-Leads, Body 5.3x5.3mm, Pitch 1.27mm, IPC Medium Density)
pins: 1 VCC2 (power), 2 X1 (in), 3 X2 (in), 4 GND (power), 5 ~{RST} (in), 6 I/O (io), 7 SCLK (in), 8 VCC1 (power)

## EZJ-Z1V420FA
designator M?
VARISTOR 42V 15A 0603; Manufacturer: Panasonic Electronic Components; Manufacturer Part Number: EZJ-Z1V420FA; Number of Circuits: 1; Maximum DC Volts: 30VDC; Supplier 1: Digi-Key; RoHS: RoHS Compliant; Category: Circuit Protection; Stock 1: 5765; Pricing 1: 1=0.35, 10=0.195, 100=0.1203, 500=0.09778, 1000=0.08797 (USD); Packaging: Cut Tape (CT); Varistor Voltage (Min): 42V; Current - Surge: 15A; Maximum AC Volts: -; Energy: -; Package / Case: 0603 (1608 Metric); ComponentLink1URL: http://industrial.panasonic.com/www-cgi/jvcr13pz.cgi?E+PZ+3+AWC0002+EZJZ1V420FA+7+WW; ComponentLink1Description: http://industrial.panasonic.com/www-cgi/jvcr13pz.cgi?E+PZ+3+AWC0002+EZJZ1V420FA+7+WW; Supplier Part Number 1: P13699CT-ND
footprint R0603_L (Chip Resistor, 2-Leads, Body 1,60x0,85mm, IPC High Density)
footprint R0603_M (Chip Resistor, 2-Leads, Body 1,60x0,85mm, IPC Low Density)
footprint R0603_N (Chip Resistor, 2-Leads, Body 1,60x0,85mm, IPC Medium Density)
pins: 1, 2

## Fiducial
designator Fid?
Fiducial
footprint Fiducial-40mil_L
footprint Fiducial-40mil_M

## FT230XS-R
designator U?
IC USB SERIAL BASIC UART 16SSOP; Manufacturer: FTDI, Future Technology Devices International Ltd; Function: Bridge, USB to UART; Standards: USB 2.0; Voltage - Supply: 3.3 V ~ 5 V; Current - Supply: 8mA; Supplier 1: Digi-Key; Manufacturer Part Number: FT230XS-R; RoHS: RoHS Compliant; Category: Integrated Circuits (ICs); Stock 1: 44322; Pricing 1: 1=2.04, 25=1.97, 100=1.9, 250=1.71, 500=1.54, 1000=1.4875 (USD); Packaging: Cut Tape (CT); Protocol: USB; Interface: UART; Operating Temperature: -40°C ~ 85°C; Package / Case: 16-SSOP (0.154", 3.90mm Width); Supplier Device Package: 16-SSOP; ComponentLink1URL: http://www.ftdichip.com/Support/Documents/DataSheets/ICs/DS_FT230X.pdf; ComponentLink1Description: http://www.ftdichip.com/Support/Documents/DataSheets/ICs/DS_FT230X.pdf; Supplier Part Number 1: 768-1135-1-ND
footprint SSOP-16_N (SOP, 16-Leads, Body 4,90x3,90mm, Pitch 0,64mm, IPC Medium Density)
footprint SSOP-16_M (SOP, 16-Leads, Body 4,90x3,90mm, Pitch 0,64mm, IPC Low Density)
footprint SSOP-16_L (SOP, 16-Leads, Body 4,90x3,90mm, Pitch 0,64mm, IPC High Density)
pins: 1 TXD, 2 RTS#, 3 VCCIO, 4 RXD, 5 GND, 6 CTS#, 7 CBUS2, 8 USBDP, 9 USBDM, 10 3V3OUT, 11 /RESET, 12 VCC, 13 GND, 14 CBUS1, 15 CBUS0, 16 CBUS3

## G5LE-1-36 DC5
designator U?
RELAY GEN PURPOSE SPDT 10A 5V; Manufacturer: Omron Electronics Inc-EMC Div; Manufacturer Part Number: G5LE-1-36 DC5; Relay Type: General Purpose; Coil Type: Non Latching; Coil Current: 72mA; Coil Voltage: 5VDC; Contact Form: SPDT (1 Form C); Switching Voltage: 250VAC, 125VDC - Max; Turn On Voltage (Max): 3.75 VDC; Turn Off Voltage (Min): 0.5 VDC; Operate Time: 10ms; Release Time: 5ms; Coil Power: 360 mW; Coil Resistance: 70 Ohms; Supplier 1: Digi-Key; RoHS: RoHS Compliant; Category: Relays; Stock 1: 20; Pricing 1: 1=1.45, 10=1.361, 25=1.21, 50=1.1494, 100=1.0889, 250=0.96788, 500=0.90738, 1000=0.84689, 2500=0.83176 (USD); Packaging: Bulk; Contact Rating (Current): 10A; Features: Insulation - Class B, Sealed - Flux Protection; Mounting Type: Through Hole; Termination Style: PC Pin; Contact Material: Silver Tin Oxide (AgSnO); Operating Temperature: -40°C ~ 85°C; ComponentLink1URL: http://www.components.omron.com/components/web/PDFLIB.nsf/0/0293ACA6B03161CD86257538007424DB/$file/G5LE_0813.pdf; ComponentLink1Description: http://www.components.omron.com/components/web/PDFLIB.nsf/0/0293ACA6B03161CD86257538007424DB/$file/G5LE_0813.pdf; Supplier Part Number 1: G5LE-1-36DC5-ND
footprint Relay 5V
pins: 1 Com, 2 PinV+, 3 NoOpen, 4 NoClose, 5 PinV-

## HC-05
designator U?
Bluetooth RS232 module
footprint HC-05
pins: 1 UART_TXD, 2 UART_RXD, 3 CTS, 4 RTS, 5 PCM_CLK, 6 PCM_OUT, 7 PCM_IN, 8 PCM_SYNC, 9 AIO0, 10 AIO1, 11 RESET, 12 3.3V, 13 GND, 14 NC, 15 USB_DM, 16 CSB, 17 MOSI, 18 MISO, 19 CLK, 20 USB_DP, 21 GND, 22 GND, 23 PIO0, 24 PIO1, 25 PIO2, 26 PIO3, 27 PIO4, 28 PIO5, 29 PIO6, 30 PIO7, 31 PIO8, 32 PIO9, 33 PIO10, 34 PIO11

## Header 2
designator P?
Header, 2-Pin; LatestRevisionDate: 17-Jul-2002; LatestRevisionNote: Re-released for DXP Platform.; Publisher: Altium Limited
footprint HDR1X2 (Connector; Header; 2 Position)
signal-integrity model Connector
pins: 1, 2

## Header 3X2
designator P?
Header, 3-Pin, Dual row; LatestRevisionDate: 17-Jul-2002; LatestRevisionNote: Re-released for DXP Platform.; Publisher: Altium Limited
footprint HDR2X3 (Connector; Header; 3x2 Position)
signal-integrity model Connector
pins: 1, 2, 3, 4, 5, 6

## Header 4
designator P?
Header, 4-Pin; LatestRevisionDate: 17-Jul-2002; LatestRevisionNote: Re-released for DXP Platform.; Publisher: Altium Limited
footprint HDR1X4 (Connector; Header; 4 Position)
signal-integrity model Connector
pins: 1, 2, 3, 4

## IND 33uH
designator L?
INDUCTOR POWER 33UH 5.5A SMD; Manufacturer: Wurth Electronics Inc; Manufacturer Part Number: 7443551331; Type: Wirewound; Inductance: 33µH; Tolerance: ±20%; Shielding: Shielded; DC Resistance (DCR): 30.5 mOhm; Frequency - Self Resonant: 11MHz; Frequency - Test: 100kHz; Supplier 1: Digi-Key; RoHS: RoHS Compliant; Category: Inductors, Coils, Chokes; Stock 1: 2103; Pricing 1: 1=3.71, 10=3.575, 50=3.3, 100=3.1625, 200=2.95625 (USD); Packaging: Cut Tape (CT); Material - Core: -; Current Rating: 5.5A; Current - Saturation: 5.5A; Q @ Freq: -; Operating Temperature: -40°C ~ 155°C; Mounting Type: Surface Mount; Package / Case: Non Standard; Size / Dimension: 0.512" L x 0.504" W (13.00mm x 12.80mm); Height - Seated (Max): 0.256" (6.50mm); Supplier Device Package: -; ComponentLink1URL: http://katalog.we-online.de/pbs/datasheet/7443551331.pdf; ComponentLink1Description: http://katalog.we-online.de/pbs/datasheet/7443551331.pdf; Supplier Part Number 1: 732-3881-1-ND
footprint WW_IND_L (Precision Wire Wound Inductor, 2-Leads, Body 12,50x12,80mm, IPC High Density)
footprint WW_IND_M (Precision Wire Wound Inductor, 2-Leads, Body 12,50x12,80mm, IPC Low Density)
footprint WW_IND_N (Precision Wire Wound Inductor, 2-Leads, Body 12,50x12,80mm, IPC Medium Density)
pins: 1, 2

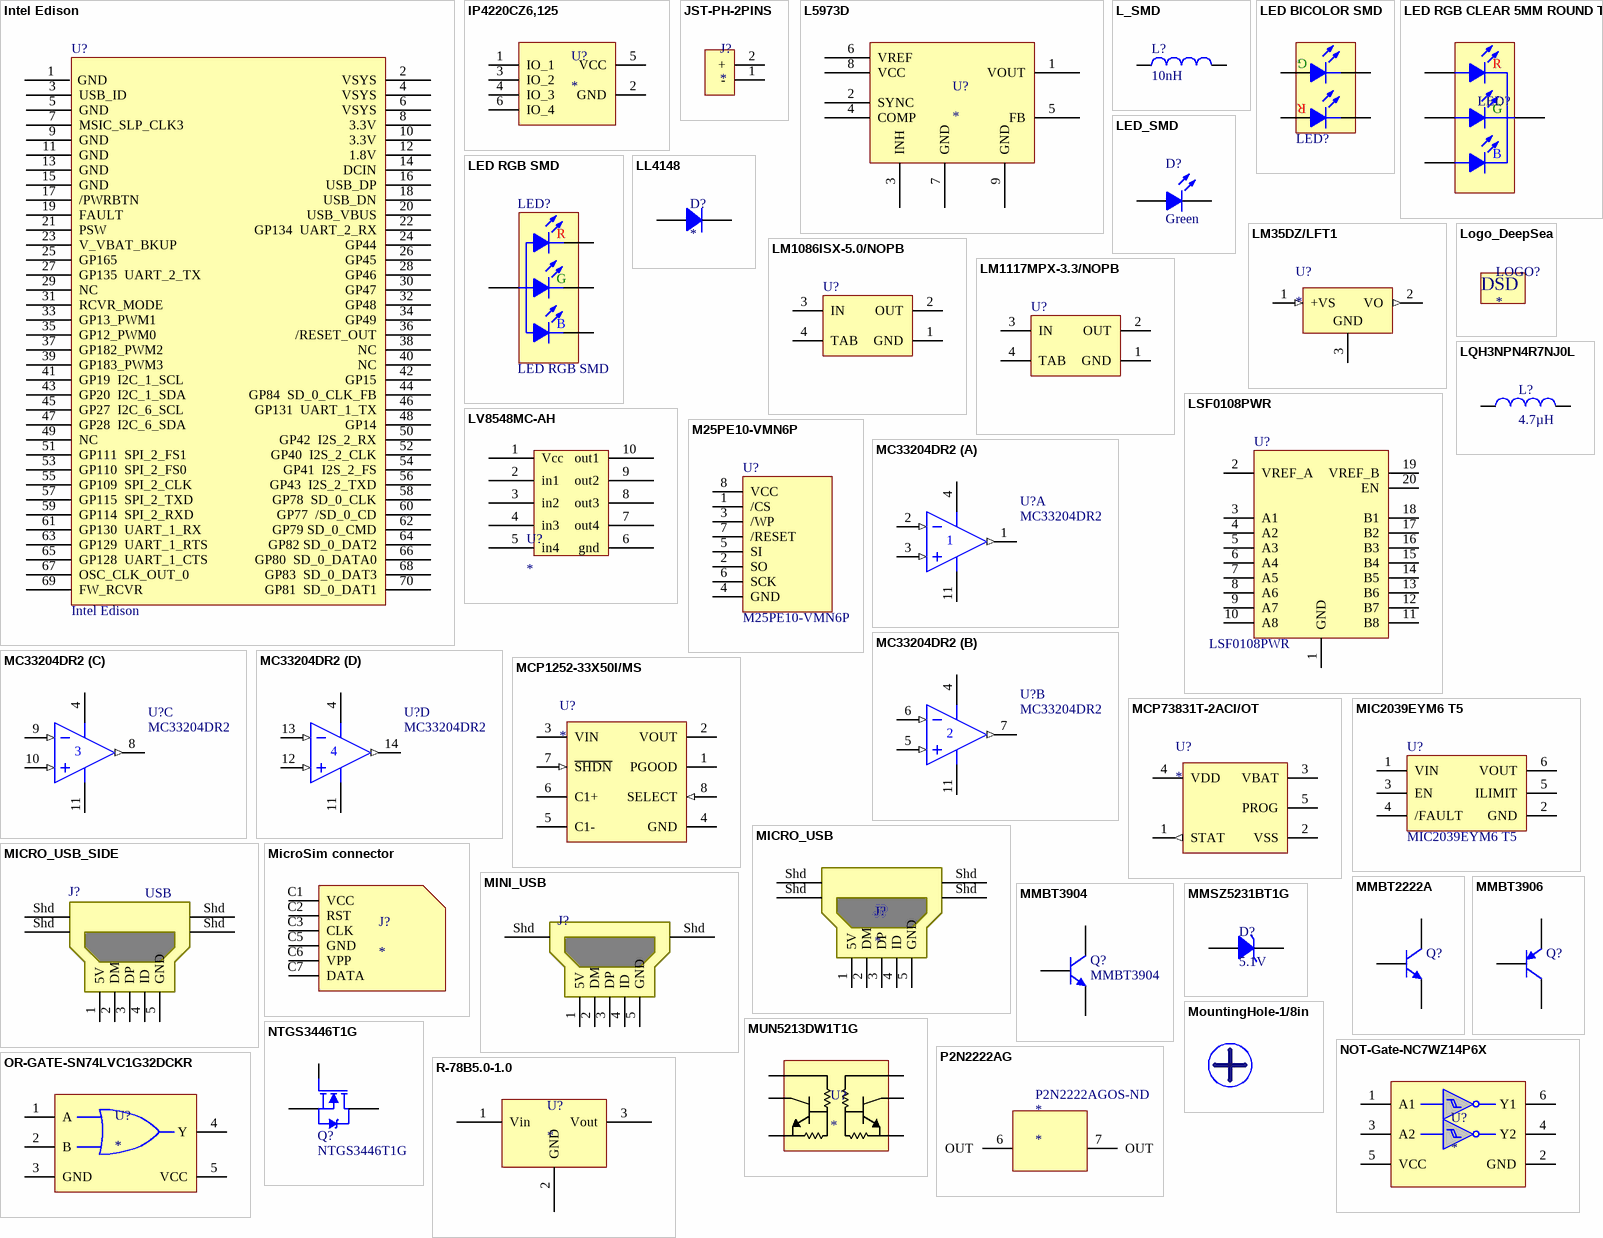
[diagram p1: symbols Intel Edison to R-78B5.0-1.0]

## Intel Edison
designator U?
footprint INTEL_EDISON_N
footprint Intel_Edison_L
pins: 1 GND, 2 VSYS, 3 USB_ID, 4 VSYS, 5 GND, 6 VSYS, 7 MSIC_SLP_CLK3, 8 3.3V, 9 GND, 10 3.3V, 11 GND, 12 1.8V, 13 GND, 14 DCIN, 15 GND, 16 USB_DP, 17 /PWRBTN, 18 USB_DN, 19 FAULT, 20 USB_VBUS, 21 PSW, 22 GP134  UART_2_RX, 23 V_VBAT_BKUP, 24 GP44, 25 GP165, 26 GP45, 27 GP135  UART_2_TX, 28 GP46, 29 NC, 30 GP47, 31 RCVR_MODE, 32 GP48, 33 GP13_PWM1, 34 GP49, 35 GP12_PWM0, 36 /RESET_OUT, 37 GP182_PWM2, 38 NC, 39 GP183_PWM3, 40 NC, 41 GP19  I2C_1_SCL, 42 GP15, 43 GP20  I2C_1_SDA, 44 GP84  SD_0_CLK_FB, 45 GP27  I2C_6_SCL, 46 GP131  UART_1_TX, 47 GP28  I2C_6_SDA, 48 GP14, 49 NC, 50 GP42  I2S_2_RX, 51 GP111  SPI_2_FS1, 52 GP40  I2S_2_CLK, 53 GP110  SPI_2_FS0, 54 GP41  I2S_2_FS, 55 GP109  SPI_2_CLK, 56 GP43  I2S_2_TXD, 57 GP115  SPI_2_TXD, 58 GP78  SD_0_CLK, 59 GP114  SPI_2_RXD, 60 GP77  /SD_0_CD, 61 GP130  UART_1_RX, 62 GP79 SD_0_CMD, 63 GP129  UART_1_RTS, 64 GP82 SD_0_DAT2, 65 GP128  UART_1_CTS, 66 GP80  SD_0_DATA0, 67 OSC_CLK_OUT_0, 68 GP83  SD_0_DAT3, 69 FW_RCVR, 70 GP81  SD_0_DAT1

## IP4220CZ6,125
designator U?
IC USB DUAL ESD PROTECT 6TSOP; Manufacturer: NXP Semiconductors; Manufacturer Part Number: IP4220CZ6,125; Voltage - Working: 5.5V; Number of Circuits: 4; Supplier 1: Digi-Key; RoHS: RoHS Compliant; Category: Circuit Protection; Stock 1: 1333; Pricing 1: 1=0.54, 10=0.42, 25=0.3544, 100=0.2888, 250=0.2392, 500=0.1976, 1000=0.148 (USD); Packaging: Cut Tape (CT); Voltage - Clamping: -; Technology: Mixed Technology; Power (Watts): -; Applications: USB; Package / Case: SC-74, SOT-457; Supplier Device Package: 6-TSOP; ComponentLink1URL: http://www.nxp.com/documents/data_sheet/IP4220CZ6.pdf; ComponentLink1Description: http://www.nxp.com/documents/data_sheet/IP4220CZ6.pdf; Supplier Part Number 1: 568-3529-1-ND
footprint SOT457_L (TSOP, 6-Leads, Body 2,90x1,50mm, Pitch 0,95mm, IPC High Density)
footprint SOT457_M (TSOP, 6-Leads, Body 2,90x1,50mm, Pitch 0,95mm, IPC Low Density)
footprint SOT457_N (TSOP, 6-Leads, Body 2,90x1,50mm, Pitch 0,95mm, IPC Medium Density)
pins: 1 IO_1, 2 GND, 3 IO_2, 4 IO_3, 5 VCC, 6 IO_4

## JST-PH-2PINS
designator J?
CONN HEADER PH SIDE 2POS 2MM SMD; Manufacturer: JST Sales America Inc; Manufacturer Part Number: S2B-PH-SM4-TB(LF)(SN); Connector Type: Header, Shrouded; Number of Positions: 2; Number of Positions Loaded: All; Pitch: 0.079" (2.00mm); Supplier 1: Digi-Key; RoHS: RoHS Compliant; Category: Connectors, Interconnects; Stock 1: 51442; Pricing 1: 1=0.56, 10=0.521, 50=0.4168, 100=0.3994, 250=0.36472, 500=0.34734 (USD); Packaging: Cut Tape (CT); Contact Type: Male Pin; Number of Rows: 1; Row Spacing: -; Contact Mating Length: -; Mounting Type: Surface Mount, Right Angle; Termination: Solder; Fastening Type: -; Features: Solder Retention; Contact Finish: Tin; Contact Finish Thickness: -; Color: Natural; ComponentLink1URL: http://www.jst-mfg.com/product/pdf/eng/ePH.pdf; ComponentLink1Description: http://www.jst-mfg.com/product/pdf/eng/ePH.pdf; Supplier Part Number 1: 455-1749-1-ND
footprint JST-PH-2
pins: 1 -, 2 +

## L5973D
designator U?
IC REG BUCK ADJ 2.5A SOIC8; Manufacturer: STMicroelectronics; Manufacturer Part Number: L5973D; Output Type: Adjustable; Number of Outputs: 1; Voltage - Output: 1.24 V ~ 35 V; Voltage - Input: 4 V ~ 36 V; Frequency - Switching: 250kHz; Synchronous Rectifier: No; Supplier 1: Digi-Key; RoHS: RoHS Compliant; Category: Integrated Circuits (ICs); Stock 1: 982; Pricing 1: 1=2.85, 10=2.548, 25=2.2928, 100=2.089, 250=1.88516, 500=1.69154, 1000=1.4266, 2500=1.35527 (USD); Packaging: Tube; Type: Step-Down (Buck); PWM Type: -; Current - Output: 2.5A; Operating Temperature: -40°C ~ 150°C; Mounting Type: Surface Mount; Package / Case: 8-SOIC (0.154", 3.90mm Width) Exposed Pad; Supplier Device Package: 8-HSOP; ComponentLink1URL: http://www.st.com/web/en/resource/technical/document/datasheet/CD00002851.pdf; ComponentLink1Description: http://www.st.com/web/en/resource/technical/document/datasheet/CD00002851.pdf; Supplier Part Number 1: 497-14766-5-ND
footprint HSOIC-8_L (SOIC, 8-Leads, Body 4,90x3,90mm, Pitch 1,27mm, Thermal Pad 3,20.2x2,20.2mm, IPC High Density)
footprint HSOIC-8_N (SOIC, 8-Leads, Body 4,90x3,90mm, Pitch 1,27mm, Thermal Pad 3,20.2x2,00.2mm, IPC Medium Density)
footprint HSOIC_8_M (SOIC, 8-Leads, Body 4,90x3,90mm, Pitch 1,27mm, Thermal Pad 3,20.2x1,80.2mm, IPC Low Density)
pins: 1 VOUT, 2 SYNC, 3 INH, 4 COMP, 5 FB, 6 VREF, 7 GND, 8 VCC, 9 GND

## L_SMD
designator L?, comment 10nH
Value: 10nH
footprint R0603_N (Chip Resistor, 2-Leads, Body 1,60x0,85mm, IPC Medium Density)
footprint R0603_M (Chip Resistor, 2-Leads, Body 1,60x0,85mm, IPC Low Density)
footprint R0603_L (Chip Resistor, 2-Leads, Body 1,60x0,85mm, IPC High Density)
pins: 1, 2

## LED BICOLOR SMD
designator LED?  (value not drawn)
LED BICOLOR GN/HER DIFF SMD; Manufacturer: Avago Technologies US Inc.; Manufacturer Part Number: HSMF-C155; Color: Green, Red; Wavelength - Dominant: 572nm Green, 626nm Red; Wavelength - Peak: 570nm Green, 630nm Red; Millicandela Rating: 15mcd Green, 10mcd Red; Voltage - Forward (Vf) (Typ): 2.2V Green, 2.1V Red; Current - Test: 20mA Green, 20mA Red; Viewing Angle: 170°; Lens Transparency: Diffused; Lens Color: White; Lens Style/Size: Rectangle with Flat Top, 2.06mm x 2.70mm; Supplier 1: Digi-Key; RoHS: RoHS Compliant; Category: Optoelectronics; Stock 1: 52010; Pricing 1: 1=0.49, 10=0.378, 25=0.308, 100=0.245, 250=0.21, 500=0.182, 1000=0.14 (USD); Packaging: Cut Tape (CT); Package / Case: 1210 (3225 Metric); Supplier Device Package: Chip LED; Size / Dimension: 3.20mm L x 2.70mm W; Height (Max): 1.10mm; Mounting Type: Surface Mount; ComponentLink1URL: http://www.avagotech.com/docs/AV02-0427EN; ComponentLink1Description: http://www.avagotech.com/docs/AV02-0427EN; Supplier Part Number 1: 516-1456-1-ND
footprint BICOLOR_LED_SMD
pins: 1 A1, 2 K1, 3 A2, 4 K2
text: G; R

## LED RGB CLEAR 5MM ROUND T/H
designator LED?  (value not drawn)
LED RGB CLEAR 5MM ROUND T/H; Manufacturer: Kingbright; Manufacturer Part Number: WP154A4SUREQBFZGC; Color: Red, Green, Blue (RGB); Wavelength - Dominant: 630nm Red, 525nm Green, 465nm Blue; Wavelength - Peak: 645nm Red, 515nm Green, 460nm Blue; Millicandela Rating: 1300mcd Red, 1700mcd Green, 900mcd Blue; Voltage - Forward (Vf) (Typ): 1.9V Red, 3.3V Green, 3.3V Blue; Current - Test: 20mA Red, 20mA Green, 20mA Blue; Viewing Angle: 50°; Lens Color: Colorless; Lens Style/Size: Round with Domed Top, 5mm (T-1 3/4), 5.00mm; Supplier 1: Digi-Key; RoHS: RoHS Compliant; Category: Optoelectronics; Stock 1: 10943; Pricing 1: 1=1.89, 10=1.534, 25=1.18, 100=1.062, 250=0.944, 500=0.8024, 1000=0.6608 (USD); Packaging: Bulk; Lens Transparency: Clear; Package / Case: Radial - 4 Leads; Supplier Device Package: T-1 3/4; Size / Dimension: -; Height (Max): 8.60mm; Mounting Type: Through Hole; ComponentLink1URL: http://www.kingbrightusa.com/images/catalog/SPEC/WP154A4SUREQBFZGC.pdf; ComponentLink1Description: http://www.kingbrightusa.com/images/catalog/SPEC/WP154A4SUREQBFZGC.pdf; Supplier Part Number 1: 754-1615-ND
footprint RGB-LED-5mm-TH
pins: 1 RA, 2 K, 3 BA, 4 GA
text: R; G; B

## LED RGB SMD
designator LED?
LED RGB 605/525/470NM DIFF SMD; Manufacturer: Lite-On Inc; Manufacturer Part Number: LTST-C19FD1WT; Color: Red, Green, Blue (RGB); Wavelength - Dominant: 605nm Red, 525nm Green, 470nm Blue; Wavelength - Peak: 611nm Red, 520nm Green, 468nm Blue; Millicandela Rating: 113mcd Red, 260.5mcd Green, 104mcd Blue; Voltage - Forward (Vf) (Typ): 2V Red, 3.5V Green, 3.5V Blue; Current - Test: 20mA Red, 20mA Green, 20mA Blue; Viewing Angle: 130°; Lens Transparency: Diffused; Lens Color: White; Lens Style/Size: Rectangle with Flat Top; Supplier 1: Digi-Key; RoHS: RoHS Compliant; Category: Optoelectronics; Stock 1: 4380; Pricing 1: 1=0.6, 10=0.462, 100=0.2993, 250=0.25652, 500=0.2223, 1000=0.171 (USD); Packaging: Cut Tape (CT); Package / Case: 4-SMD, No Lead; Supplier Device Package: Chip LED; Size / Dimension: 2.10mm L x 1.60mm W; Height (Max): 0.55mm; Mounting Type: Surface Mount; ComponentLink1URL: http://optoelectronics.liteon.com/upload/download/DS22-2001-076/S_110_LTST-C19FD1WT.pdf; ComponentLink1Description: http://optoelectronics.liteon.com/upload/download/DS22-2001-076/S_110_LTST-C19FD1WT.pdf; Supplier Part Number 1: 160-2022-1-ND
footprint RGB_LED_SMD
pins: 1 BK, 2 RK, 3 GK, 4 A
text: R; G; B

## LED_SMD
designator D?, comment Green
Color: Green
footprint R0603_L (Chip Resistor, 2-Leads, Body 1,60x0,85mm, IPC High Density)
footprint R0603_M (Chip Resistor, 2-Leads, Body 1,60x0,85mm, IPC Low Density)
footprint R0603_N (Chip Resistor, 2-Leads, Body 1,60x0,85mm, IPC Medium Density)
footprint R0805_L (Chip Resistor, 2-Leads, Body 2,00x1,25mm, IPC High Density)
footprint R0805_M (Chip Resistor, 2-Leads, Body 2,00x1,25mm, IPC Low Density)
footprint R0805_N (Chip Resistor, 2-Leads, Body 2,00x1,25mm, IPC Medium Density)
footprint R1206_L (Chip Resistor, 2-Leads, Body 3,13x1,55mm, IPC High Density)
footprint R1206_M (Chip Resistor, 2-Leads, Body 3,13x1,60mm, IPC Low Density)
footprint R1206_N (Chip Resistor, 2-Leads, Body 3,13x1,55mm, IPC Medium Density)
pins: 1 A, 2 K

## LL4148
designator D?
DIODE SMALL SIG 100V 0.2A SOD80; Manufacturer: Fairchild Semiconductor; Manufacturer Part Number: LL4148; Diode Type: Standard; Current - Average Rectified (Io): 200mA; Voltage - Forward (Vf) (Max) @ If: 1V @ 10mA; Speed: Small Signal =< 200mA (Io), Any Speed; Reverse Recovery Time (trr): 4ns; Current - Reverse Leakage @ Vr: 25nA @ 20V; Capacitance @ Vr, F: 4pF @ 0V, 1MHz; Supplier 1: Digi-Key; RoHS: RoHS Compliant; Category: Discrete Semiconductor Products; Stock 1: 155674; Pricing 1: 1=0.1, 10=0.068, 25=0.062, 100=0.0445, 250=0.0262, 500=0.02174, 1000=0.01483 (USD); Packaging: Cut Tape (CT); Voltage - DC Reverse (Vr) (Max): 100V; Mounting Type: Surface Mount; Package / Case: SOD-80; Supplier Device Package: SOD-80; Operating Temperature - Junction: -55°C ~ 175°C; ComponentLink1URL: http://www.fairchildsemi.com/ds/LL/LL4148.pdf; ComponentLink1Description: http://www.fairchildsemi.com/ds/LL/LL4148.pdf; Supplier Part Number 1: LL4148FSCT-ND
footprint SOD-80_M (MELF Diode, 2-Leads, Body 3,45x1,40mm, IPC Low Density)
footprint SOD-80_L (MELF Diode, 2-Leads, Body 3,45x1,40mm, IPC High Density)
footprint SOD-80_N (MELF Diode, 2-Leads, Body 3,45x1,40mm, IPC Medium Density)
pins: 1 A, 2 K

## LM35DZ/LFT1
designator U?
IC SENSOR PREC CENT TEMP TO92-3; Manufacturer: Texas Instruments; Manufacturer Part Number: LM35DZ/LFT1; Sensing Temperature: 0°C ~ 100°C; Output Type: Linear Voltage; Voltage - Supply: 4 V ~ 30 V; Accuracy: ±0.6°C; Supplier 1: Digi-Key; RoHS: RoHS Compliant; Category: Sensors, Transducers; Stock 1: 630; Pricing 1: 1=1.57, 10=1.392, 25=1.2572, 100=1.1001, 250=0.96536, 500=0.8531, 1000=0.6735, 2500=0.6286, 5000=0.59717 (USD); Packaging: Bulk; Package / Case: TO-226-3, TO-92-3 (TO-226AA); Supplier Device Package: TO-92-3; ComponentLink1URL: http://www.ti.com/lit/ds/symlink/lm35.pdf; ComponentLink1Description: http://www.ti.com/lit/ds/symlink/lm35.pdf; Supplier Part Number 1: 296-35151-ND
footprint Z03A (TO, Flat Index; 3 In-Line, Axial Leads; Body Dia. 5mm; Leads 0.55 x 0.50 mm (max))
pins: 1 +VS (in), 2 VO (out), 3 GND (power)

## LM1086ISX-5.0/NOPB
designator U?
1.5A Low Dropout Positive Regulators, 3-pin TO-263, Pb-Free; PartNumber: LM1086ISX-5.0/NOPB; Manufacturer: National Semiconductor; PackageTopMarking: NSUZXYTTE#*LM1086*IS-5.0; PowerWise: N; CompType: LDO IC; Published: 1-Mar-2010; DatasheetVersion: Jun-2005; PackageVersion: revF, Apr-2005; PackageReference: TS3B; Publisher: Altium Limited; PackageDescription: TO-263, Molded, .400 x .390 x .180in, 3 Lead, .1in Pitch, Surface Mount; Supplier 1: Digi-Key; Supplier Part Number 1: LM1086ISX-5.0-ND; RoHS: Y; PinCount: 3; Code_JEDEC: MO-169-AA; ComponentLink1Description: LM1086 Datasheet; ComponentLink1URL: http://www.national.com/ds/LM/LM1086.pdf; ComponentLink2Description: LM1086 Web Page; ComponentLink2URL: http://www.national.com/pf/LM/LM1086.html; ComponentLink3Description: TS3B Package Page; ComponentLink3URL: http://www.national.com/packaging/folders/ts3b.html
footprint TS3B_N (D2-PAK, 4-Leads, Body 8.6x10.2mm, Pitch 2.54mm, Lead Span 14.2mm, IPC Medium Density)
footprint TS3B_L (D2-PAK, 4-Leads, Body 8.6x10.2mm, Pitch 2.54mm, Lead Span 14.2mm, IPC High Density)
footprint TS3B_M (D2-PAK, 4-Leads, Body 8.6x10.2mm, Pitch 2.54mm, Lead Span 14.2mm, IPC Low Density)
pins: 1 GND (power), 2 OUT (power), 3 IN (power), 4 TAB (power)